# Altium footprint library STM32F407_CORE.PcbLib: 29 footprints (part 2 of 2)
Each footprint in its own frame and in the unit in brackets; x right, y up, seen from the top. Pads: shape width x height; smd on the part's side, far side on the other; paste and mask are expansions set on the pad; w line width, h text height; cw(c..) or ccw(c..) is an arc to the next point about the centre after c.
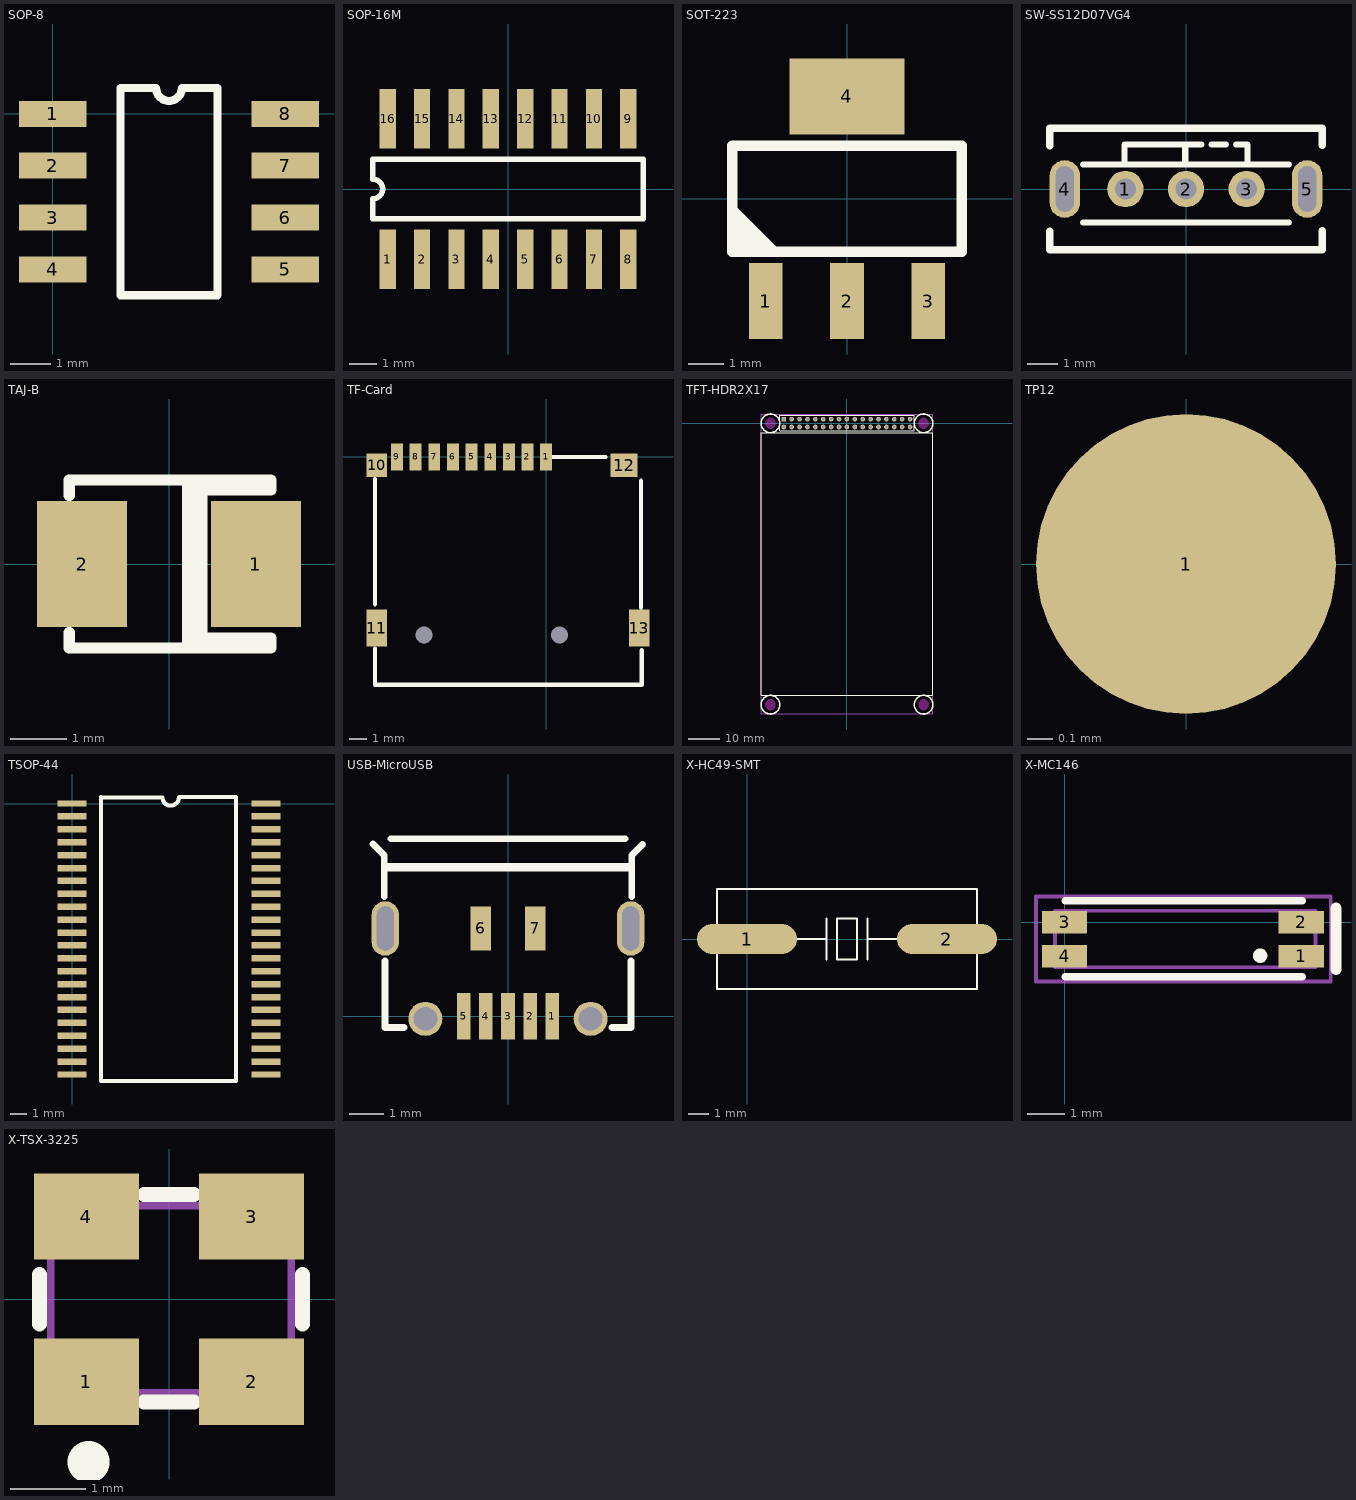
[diagram p1: the footprints below, top view; thin cyan lines are the x and y axes]

## SOP-8 [mil]
pads (8):
  rect 65x25 smd: 1(0,0) 2(0,-50) 3(0,-100) 4(0,-150) 5(224.41,-150) 6(224.41,-100) 7(224.41,-50) 8(224.41,0)
Top Overlay:
  lines w7.87: 65.37,-175 159.04,-175 159.04,25 124.7,25 cw(c112.2,25) 99.7,25 65.37,25 65.37,-175
3D body "User Library-sop-8.STEP": height 62.99, standoff 0, extent -6.87,-174.9 231,22.74

## SOP-16M [mm]
pads (16):
  rect 0.6x2.2 smd: 1(-4.445,-2.6) 2(-3.175,-2.6) 3(-1.905,-2.6) 4(-0.635,-2.6) 5(0.635,-2.6) 6(1.905,-2.6) 7(3.175,-2.6) 8(4.445,-2.6) 9(4.445,2.6) 10(3.175,2.6) 11(1.905,2.6) 12(0.635,2.6) 13(-0.635,2.6) 14(-1.905,2.6) 15(-3.175,2.6) 16(-4.445,2.6)
Top Overlay:
  lines w0.2: -5,-1.1 5,-1.1 5,1.1 -5,1.1 -5,0.367 cw(c-5,0) -5,-0.367 -5,-1.1
3D body "User Library-TLP291-4(SOP16).STEP": height 2.1, standoff 0, extent -5.15,-3.5 5.15,3.5

## SOT-223 [mm]
pads (4):
  rect 0.95x2.15 smd: 1(-2.3,-2.9) 2(0,-2.9) 3(2.3,-2.9)
  rect 3.25x2.15 smd: 4(0,2.9)
Top Overlay:
  lines w0.254: -3.251,-0.838 -2.616,-1.473 ; -3.251,-0.279 -2.031,-1.5 ; -3.226,-1.168 -2.921,-1.473 ; -3.226,-0.559 -2.286,-1.499
  lines w0.3: -3.25,-1.5 -3.25,1.5 3.25,1.5 3.25,-1.5 -3.25,-1.5
3D body "User Library-AMS1117.STEP": height 1.87, standoff 0.01, extent -3.223,-3.449 3.277,3.55

## SW-SS12D07VG4 [mm]
pads (5):
  round 1.2 hole 0.7: 1(-2,0) 2(0,0) 3(2,0)
  oval 1x1.9 hole 0.6 slot 1.5 at 90 deg: 4(-4,0) 5(4,0)
Top Overlay:
  lines w0.2: -3.4,-1.1 3.4,-1.1 ; -3.4,0.813 3.4,0.813 ; -2.032,0.813 -2.032,1.473 -0.025,1.473 ; -0.025,0.838 -0.025,1.473 ; 0.508,1.473 -0.025,1.473 ; 0.838,1.473 1.321,1.473 ; 1.651,1.473 2,1.473 ; 2.032,0.813 2.032,1.473
  lines w0.25: -4.5,-1.397 -4.5,-2 4.5,-2 4.5,-1.372 ; -4.5,1.422 -4.5,2 4.5,2 4.5,1.448

## TAJ-B [mm]
pads (2):
  rect 1.6x2.25 smd: 1(1.55,0) 2(-1.55,0)
Top Overlay:
  region: 0.686,1.499 0.229,1.499 0.229,-1.499 0.686,-1.499
  lines w0.2: -1.778,-1.219 -1.778,-1.499 1.821,-1.499 1.821,-1.321 0.483,-1.321 ; -1.778,1.219 -1.778,1.499 1.821,1.499 1.821,1.321 0.61,1.321
3D body "User Library-CaseB_3528-21.STEP": height 1.9, standoff 0, extent -1.75,-1.4 1.75,1.4

## TF-Card [mm]
pads (15):
  round 0 hole 1: 0(-7.2,-10.5) 0(0.8,-10.5)
  rect 0.7x1.6 smd: 1(0,0) 2(-1.1,0) 3(-2.2,0) 4(-3.3,0) 5(-4.4,0) 6(-5.5,0) 7(-6.6,0) 8(-7.7,0) 9(-8.8,0)
  rect 1.2x1.4 smd: 10(-10,-0.5)
  rect 1.2x2.2 smd: 11(-10,-10.1) 13(5.5,-10.1)
  rect 1.6x1.4 smd: 12(4.6,-0.5)
Top Overlay:
  lines w0.254: -10.1,-11.3 -10.1,-13.437 5.639,-13.437 5.639,-11.4 ; -10.1,-8.7 -10.1,-1.3 ; 0.4,0 3.5,0 ; 5.6,-8.9 5.6,-1.4
3D body "User Library-micro-sd-card.STEP": height 2.2, standoff -0.5, extent -10.35,-16.4 5.75,0.8

## TFT-HDR2X17 [mm]
pads (34):
  rect 1.5x1.5 hole 0.9: 1(-20.32,1.27)
  round 1.5 hole 0.9: 2(-20.32,-1.27) 3(-17.78,1.27) 4(-17.78,-1.27) 5(-15.24,1.27) 6(-15.24,-1.27) 7(-12.7,1.27) 8(-12.7,-1.27) 9(-10.16,1.27) 10(-10.16,-1.27) 11(-7.62,1.27) 12(-7.62,-1.27) 13(-5.08,1.27) 14(-5.08,-1.27) 15(-2.54,1.27) 16(-2.54,-1.27) 17(0,1.27) 18(0,-1.27) 19(2.54,1.27) 20(2.54,-1.27) 21(5.08,1.27) 22(5.08,-1.27) 23(7.62,1.27) 24(7.62,-1.27) 25(10.16,1.27) 26(10.16,-1.27) 27(12.7,1.27) 28(12.7,-1.27) 29(15.24,1.27) 30(15.24,-1.27) 31(17.78,1.27) 32(17.78,-1.27) 33(20.32,1.27) 34(20.32,-1.27)
Top Overlay:
  circle w0.508: c-24.607,-90.587 r3
  circle w0.508: c-24.607,-0.087 r3
  circle w0.508: c24.661,-90.587 r3
  circle w0.508: c24.661,-0.087 r3
  lines w0.2: -21.59,-2.54 21.59,-2.54 21.59,2.54 -21.59,2.54 -21.59,-2.54
  lines w0.254: -27.607,-87.587 27.653,-87.587 27.653,-3.087 -27.607,-3.087 -27.607,-87.587
Keep-Out Layer:
  board cut-out: 23.061,-90.587 23.061,-90.745 23.122,-91.054 23.243,-91.345 23.418,-91.607 23.641,-91.83 23.903,-92.005 24.194,-92.126 24.503,-92.187 24.661,-92.187 24.818,-92.187 25.127,-92.126 25.418,-92.005 25.681,-91.83 25.903,-91.607 26.078,-91.345 26.199,-91.054 26.261,-90.745 26.261,-90.587 26.261,-90.429 26.199,-90.12 26.078,-89.829 25.903,-89.567 25.681,-89.344 25.418,-89.169 25.127,-89.049 24.818,-88.987 24.661,-88.987 24.503,-88.987 24.194,-89.049 23.903,-89.169 23.641,-89.344 23.418,-89.567 23.243,-89.829 23.122,-90.12 23.061,-90.429
  board cut-out: -26.207,-90.587 -26.207,-90.745 -26.145,-91.054 -26.025,-91.345 -25.849,-91.607 -25.627,-91.83 -25.365,-92.005 -25.073,-92.126 -24.764,-92.187 -24.607,-92.187 -24.449,-92.187 -24.14,-92.126 -23.849,-92.005 -23.587,-91.83 -23.364,-91.607 -23.189,-91.345 -23.068,-91.054 -23.007,-90.745 -23.007,-90.587 -23.007,-90.429 -23.068,-90.12 -23.189,-89.829 -23.364,-89.567 -23.587,-89.344 -23.849,-89.169 -24.14,-89.049 -24.449,-88.987 -24.607,-88.987 -24.764,-88.987 -25.073,-89.049 -25.365,-89.169 -25.627,-89.344 -25.849,-89.567 -26.025,-89.829 -26.145,-90.12 -26.207,-90.429
  board cut-out: -26.207,-0.087 -26.207,-0.245 -26.145,-0.554 -26.025,-0.845 -25.849,-1.107 -25.627,-1.33 -25.365,-1.505 -25.073,-1.626 -24.764,-1.687 -24.607,-1.687 -24.449,-1.687 -24.14,-1.626 -23.849,-1.505 -23.587,-1.33 -23.364,-1.107 -23.189,-0.845 -23.068,-0.554 -23.007,-0.245 -23.007,-0.087 -23.007,0.071 -23.068,0.38 -23.189,0.671 -23.364,0.933 -23.587,1.156 -23.849,1.331 -24.14,1.451 -24.449,1.513 -24.607,1.513 -24.764,1.513 -25.073,1.451 -25.365,1.331 -25.627,1.156 -25.849,0.933 -26.025,0.671 -26.145,0.38 -26.207,0.071
  board cut-out: 23.061,-0.087 23.061,-0.245 23.122,-0.554 23.243,-0.845 23.418,-1.107 23.641,-1.33 23.903,-1.505 24.194,-1.626 24.503,-1.687 24.661,-1.687 24.818,-1.687 25.127,-1.626 25.418,-1.505 25.681,-1.33 25.903,-1.107 26.078,-0.845 26.199,-0.554 26.261,-0.245 26.261,-0.087 26.261,0.071 26.199,0.38 26.078,0.671 25.903,0.933 25.681,1.156 25.418,1.331 25.127,1.451 24.818,1.513 24.661,1.513 24.503,1.513 24.194,1.451 23.903,1.331 23.641,1.156 23.418,0.933 23.243,0.671 23.122,0.38 23.061,0.071
Keep-Out Layer:
  circle w0.127: c-24.607,-0.087 r1.6
  circle w0.127: c-24.607,-90.587 r1.6
  circle w0.127: c24.661,-90.587 r1.6
  circle w0.127: c24.661,-0.087 r1.6
Mechanical 15:
  lines w0.254: -27.607,-93.587 -27.607,2.913 27.661,2.913 27.661,-93.587 -27.607,-93.587

## TP12 [mm]
pads (1):
  round 1.2 smd: 1(0,0)

## TSOP-44 [mm]
pads (44):
  rect 1.8x0.4 smd: 1(-0.009,0.001) 2(-0.009,-0.799) 3(-0.009,-1.599) 4(-0.009,-2.399) 5(-0.009,-3.199) 6(-0.009,-3.999) 7(-0.009,-4.799) 8(-0.009,-5.599) 9(-0.009,-6.399) 10(-0.009,-7.199) 11(-0.009,-7.999) 12(-0.009,-8.799) 13(-0.009,-9.599) 14(-0.009,-10.399) 15(-0.009,-11.199) 16(-0.009,-11.999) 17(-0.009,-12.799) 18(-0.009,-13.599) 19(-0.009,-14.399) 20(-0.009,-15.199) 21(-0.009,-15.999) 22(-0.009,-16.799) 23(11.991,-16.799) 24(11.991,-15.999) 25(11.991,-15.199) 26(11.991,-14.399) 27(11.991,-13.599) 28(11.991,-12.799) 29(11.991,-11.999) 30(11.991,-11.199) 31(11.991,-10.399) 32(11.991,-9.599) 33(11.991,-8.799) 34(11.991,-7.999) 35(11.991,-7.199) 36(11.991,-6.399) 37(11.991,-5.599) 38(11.991,-4.799) 39(11.991,-3.999) 40(11.991,-3.199) 41(11.991,-2.399) 42(11.991,-1.599) 43(11.991,-0.799) 44(11.991,0.001)
Top Overlay:
  lines w0.2: 1.826,-17.199 10.156,-17.199
  lines w0.254: 1.774,-17.199 1.774,0.401 ; 1.846,-17.18 1.826,-17.199 10.156,-17.199 10.156,0.401 6.624,0.401 ; 1.846,0.381 5.588,0.381 ccw(c6.096,0.381) 6.604,0.381
3D body "SW3dPS-TSOP2-44_IS.STEP": height 1.3, standoff -0.09, extent 0.102,-17.55 11.862,0.66

## USB-MicroUSB [mm]
pads (11):
  rect 0.4x1.35 smd: 1(1.3,0) 2(0.65,0) 3(0,0) 4(-0.65,0) 5(-1.3,0)
  rect 0.6x1.3 smd: 6(-0.8,2.575) 7(0.8,2.575)
  oval 0.8x1.6 hole 0.5 slot 1.3 at 90 deg: ""(-3.6,2.575) ""(3.6,2.575)
  round 1 hole 0.7: ""(-2.425,-0.075) ""(2.425,-0.075)
Top Overlay:
  lines w0.2: -3.962,5.055 -3.632,4.724 -3.632,3.505 ; -3.607,1.626 -3.607,-0.33 -3.048,-0.33 ; -3.429,5.207 3.429,5.207 ; 3.048,-0.33 3.607,-0.33 3.607,1.626 ; 3.632,3.505 3.632,4.724 3.95,5.042
  lines w0.25: -3.607,4.375 3.607,4.375
3D body "User Library-MicroUSB-B_Molex_105017-0001.STEP": height 2.68, standoff -0.63, extent -4.1,-0.237 4.1,5.193

## X-HC49-SMT [mm]
pads (2):
  oval 5x1.5 smd: 1(0,0) 2(10,0)
Top Overlay:
  lines w0.1: 2.46,0 3.984,0 ; 3.984,-1.016 3.984,1.016 ; 6.016,-1.016 6.016,1.016 ; 6.016,0 7.54,0 ; -1.5,-2.5 11.5,-2.5 11.5,2.5 -1.5,2.5 -1.5,-2.5 ; 4.492,-1.016 4.492,1.016 5.508,1.016 5.508,-1.016 4.492,-1.016
3D body "User Library-HC49_SMDHC49SMD A.STEP": height 5.18, standoff 0, extent -1.197,-2.301 11.103,2.199

## X-MC146 [mm]
pads (4):
  rect 1.2x0.6 smd: 1(6.3,-0.9) 2(6.3,0) 3(0,0) 4(0,-0.9)
Top Overlay:
  circle w0.2: c5.207,-0.889 r0.092
  lines w0.203: 0.025,-1.45 6.325,-1.45 ; 0.025,0.575 6.325,0.575
  lines w0.305: 7.225,-1.25 7.225,0.375
Mechanical 13:
  lines w0.1: -0.762,-1.575 -0.762,0.686 7.087,0.686 7.087,-1.575 -0.762,-1.575
Mechanical 15:
  lines w0.1: -0.254,-1.194 6.68,-1.194 6.68,0.305 -0.254,0.305 -0.254,-1.194
3D body "User Library-CSYTAL-MC146.STEP": height 1.4, standoff 0, extent -0.25,-1.2 6.65,0.3

## X-TSX-3225 [mm]
pads (4):
  rect 1.4x1.15 smd: 1(-1.1,-1.1) 2(1.1,-1.1) 3(1.1,1.1) 4(-1.1,1.1)
Top Overlay:
  circle w0.508: c-1.07,-2.17 r0.025
  lines w0.2: -1.727,-0.33 -1.727,0.33 ; -0.33,-1.372 0.33,-1.372 ; -0.33,1.397 0.33,1.397 ; 1.778,-0.33 1.778,0.33
Mechanical 15:
  lines w0.1: -1.575,-1.245 1.626,-1.245 1.626,1.245 -1.575,1.245 -1.575,-1.245
3D body "User Library-3225-1.STEP": height 0.61, standoff 0, extent -1.574,-1.25 1.626,1.25